# Altium integrated library Cypress PLD Delta39K.IntLib: 82 symbols (part 18 of 21)
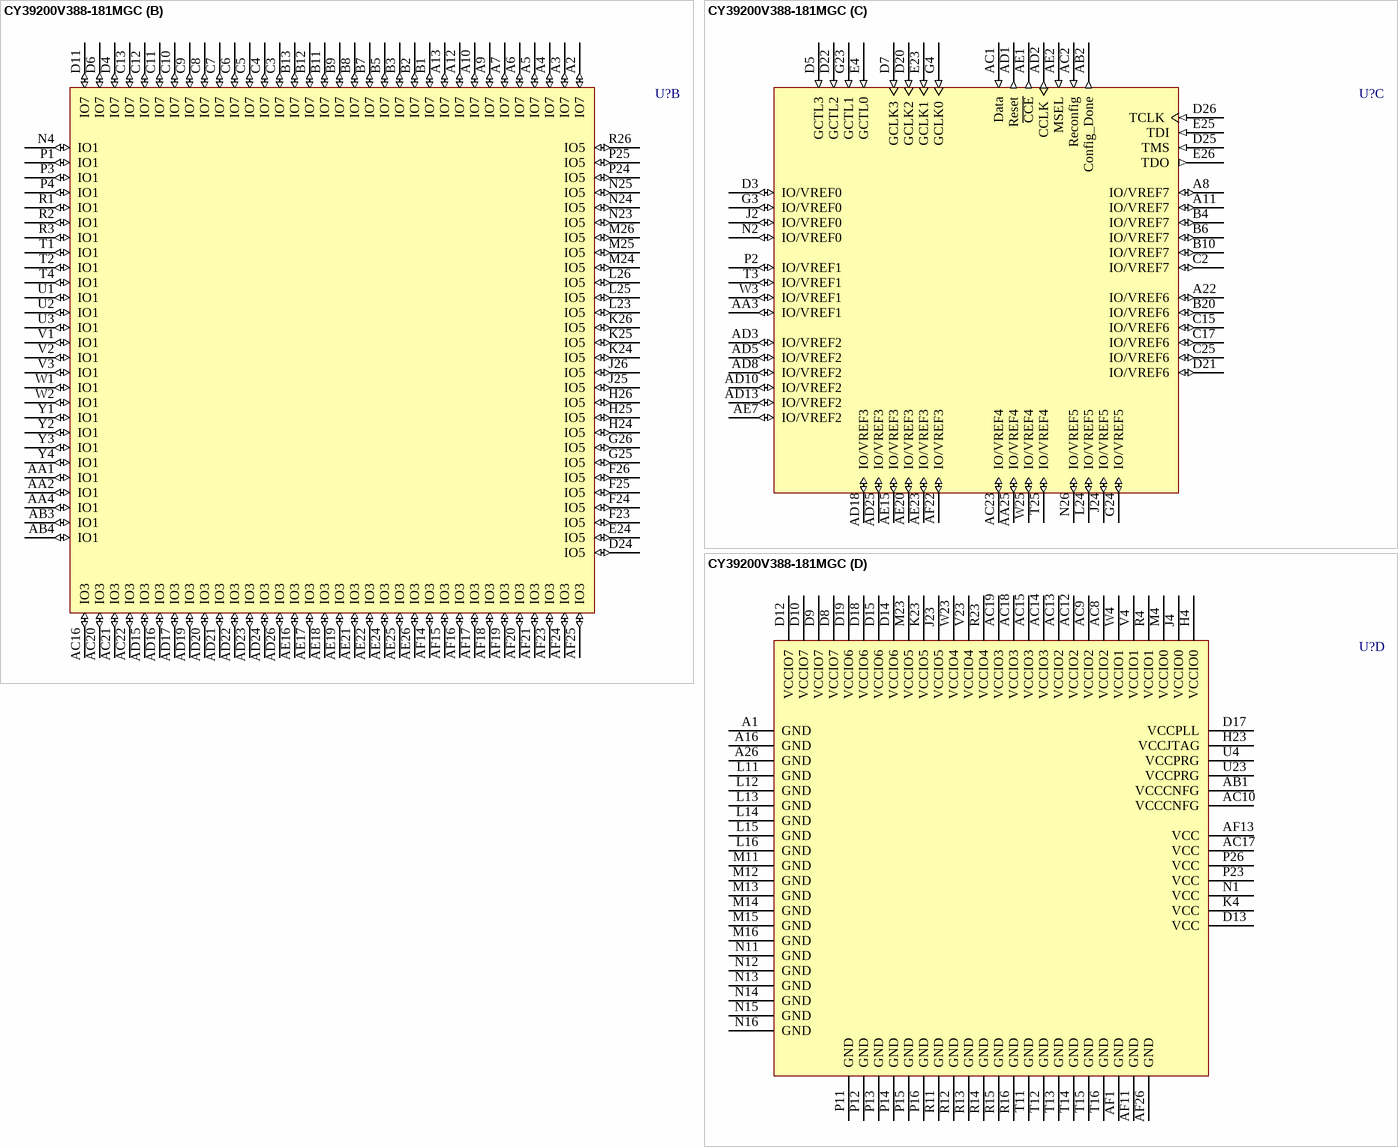
[diagram p95: symbol CY39200V388-181MGC]

## CY39200V388-181MGC
designator U?
Delta39K ISR CPLD, 3.3V/2.5V, 200K Gates, 181 MHz, 388-Ball BGA, Commercial Grade; Published: 6-Oct-2005; LatestRevisionDate: 13-Apr-2006; LatestRevisionNote: IPC-7351 Footprint Added.; DatasheetVersion: revI, Mar-2005; PackageVersion: Mar-2005; PackageReference: MG388; Publisher: Altium Limited; PackageDescription: 388-Ball Ball Grid Array 1.27 mm Pitch; ComponentLink1Description: Manufacturer Link; ComponentLink1URL: http://www.cypress.com/; ComponentLink2Description: Datasheet; ComponentLink2URL: http://www.cypress.com/portal/server.pt/gateway/PTARGS_0_601270_1522_209_0_43/http%3B/sjapp20.mis.cypress.com%3B7001/publishedcontent/publish/design_resources/datasheets/contents/cy39030v_5.pdf
footprint MG388 (BGA, 388-Leads, Body 35x35mm, Pitch 1.27mm)
3D model CY39200V388-MG388 (388-Ball Ball Grid Array 1.27 mm Pitch)
part A pins: A14 IO6 (io) "IO for Bank 6", A15 IO6 (io) "IO for Bank 6", A17 IO6 (io) "IO for Bank 6", A18 IO6 (io) "IO for Bank 6", A19 IO6 (io) "IO for Bank 6", A20 IO6 (io) "IO for Bank 6", A21 IO6 (io) "IO for Bank 6", A23 IO6 (io) "IO for Bank 6", A24 IO6 (io) "IO for Bank 6", A25 IO6 (io) "IO for Bank 6", AA23 IO4 (io) "IO for Bank 4", AA24 IO4 (io) "IO for Bank 4", AA26 IO4 (io) "IO for Bank 4", AB23 IO4 (io) "IO for Bank 4", AB24 IO4 (io) "IO for Bank 4", AB25 IO4 (io) "IO for Bank 4", AB26 IO4 (io) "IO for Bank 4", AC3 IO2 (io) "IO for Bank 2", AC4 IO2 (io) "IO for Bank 2", AC5 IO2 (io) "IO for Bank 2", AC6 IO2 (io) "IO for Bank 2", AC7 IO2 (io) "IO for Bank 2", AC11 IO2 (io) "IO for Bank 2", AC24 IO4 (io) "IO for Bank 4", AC25 IO4 (io) "IO for Bank 4", AC26 IO4 (io) "IO for Bank 4", AD4 IO2 (io) "IO for Bank 2", AD6 IO2 (io) "IO for Bank 2", AD7 IO2 (io) "IO for Bank 2", AD9 IO2 (io) "IO for Bank 2", AD11 IO2 (io) "IO for Bank 2", AD12 IO2 (io) "IO for Bank 2", AD14 IO2 (io) "IO for Bank 2", AE3 IO2 (io) "IO for Bank 2", AE4 IO2 (io) "IO for Bank 2", AE5 IO2 (io) "IO for Bank 2", AE6 IO2 (io) "IO for Bank 2", AE8 IO2 (io) "IO for Bank 2", AE9 IO2 (io) "IO for Bank 2", AE10 IO2 (io) "IO for Bank 2", AE11 IO2 (io) "IO for Bank 2", AE12 IO2 (io) "IO for Bank 2", AE13 IO2 (io) "IO for Bank 2", AE14 IO2 (io) "IO for Bank 2", AF2 IO2 (io) "IO for Bank 2", AF3 IO2 (io) "IO for Bank 2", AF4 IO2 (io) "IO for Bank 2", AF5 IO2 (io) "IO for Bank 2", AF6 IO2 (io) "IO for Bank 2", AF7 IO2 (io) "IO for Bank 2", AF8 IO2 (io) "IO for Bank 2", AF9 IO2 (io) "IO for Bank 2", AF10 IO2 (io) "IO for Bank 2", AF12 IO2 (io) "IO for Bank 2", B14 IO6 (io) "IO for Bank 6", B15 IO6 (io) "IO for Bank 6", B16 IO6 (io) "IO for Bank 6", B17 IO6/Lock (io) "IO in Bank 6 or PLL lock output signal", B18 IO6 (io) "IO for Bank 6", B19 IO6 (io) "IO for Bank 6", B21 IO6 (io) "IO for Bank 6", B22 IO6 (io) "IO for Bank 6", B23 IO6 (io) "IO for Bank 6", B24 IO6 (io) "IO for Bank 6", B25 IO6 (io) "IO for Bank 6", B26 IO6 (io) "IO for Bank 6", C1 IO0 (io) "IO for Bank 0", C14 IO6 (io) "IO for Bank 6", C16 IO6 (io) "IO for Bank 6", C18 IO6 (io) "IO for Bank 6", C19 IO6 (io) "IO for Bank 6", C20 IO6 (io) "IO for Bank 6", C21 IO6 (io) "IO for Bank 6", C22 IO6 (io) "IO for Bank 6", C23 IO6 (io) "IO for Bank 6", C24 IO6 (io) "IO for Bank 6", C26 IO6 (io) "IO for Bank 6", D1 IO0 (io) "IO for Bank 0", D2 IO0 (io) "IO for Bank 0", D16 IO6 (io) "IO for Bank 6", D23 IO6 (io) "IO for Bank 6", E1 IO0 (io) "IO for Bank 0", E2 IO0 (io) "IO for Bank 0", E3 IO0 (io) "IO for Bank 0", F1 IO0 (io) "IO for Bank 0", F2 IO0 (io) "IO for Bank 0", F3 IO0 (io) "IO for Bank 0", F4 IO0 (io) "IO for Bank 0", G1 IO0 (io) "IO for Bank 0", G2 IO0 (io) "IO for Bank 0", H1 IO0 (io) "IO for Bank 0", H2 IO0 (io) "IO for Bank 0", H3 IO0 (io) "IO for Bank 0", J1 IO0 (io) "IO for Bank 0", J3 IO0 (io) "IO for Bank 0", K1 IO0 (io) "IO for Bank 0", K2 IO0 (io) "IO for Bank 0", K3 IO0 (io) "IO for Bank 0", L1 IO0 (io) "IO for Bank 0", L2 IO0 (io) "IO for Bank 0", L3 IO0 (io) "IO for Bank 0", L4 IO0 (io) "IO for Bank 0", M1 IO0 (io) "IO for Bank 0", M2 IO0 (io) "IO for Bank 0", M3 IO0 (io) "IO for Bank 0", N3 IO0 (io) "IO for Bank 0", R24 IO4 (io) "IO for Bank 4", R25 IO4 (io) "IO for Bank 4", T23 IO4 (io) "IO for Bank 4", T24 IO4 (io) "IO for Bank 4", T26 IO4 (io) "IO for Bank 4", U24 IO4 (io) "IO for Bank 4", U25 IO4 (io) "IO for Bank 4", U26 IO4 (io) "IO for Bank 4", V24 IO4 (io) "IO for Bank 4", V25 IO4 (io) "IO for Bank 4", V26 IO4 (io) "IO for Bank 4", W24 IO4 (io) "IO for Bank 4", W26 IO4 (io) "IO for Bank 4", Y23 IO4 (io) "IO for Bank 4", Y24 IO4 (io) "IO for Bank 4", Y25 IO4 (io) "IO for Bank 4", Y26 IO4 (io) "IO for Bank 4"
part B pins: A2 IO7 (io) "IO for Bank 7", A3 IO7 (io) "IO for Bank 7", A4 IO7 (io) "IO for Bank 7", A5 IO7 (io) "IO for Bank 7", A6 IO7 (io) "IO for Bank 7", A7 IO7 (io) "IO for Bank 7", A9 IO7 (io) "IO for Bank 7", A10 IO7 (io) "IO for Bank 7", A12 IO7 (io) "IO for Bank 7", A13 IO7 (io) "IO for Bank 7", AA1 IO1 (io) "IO for Bank 1", AA2 IO1 (io) "IO for Bank 1", AA4 IO1 (io) "IO for Bank 1", AB3 IO1 (io) "IO for Bank 1", AB4 IO1 (io) "IO for Bank 1", AC16 IO3 (io) "IO for Bank 3", AC20 IO3 (io) "IO for Bank 3", AC21 IO3 (io) "IO for Bank 3", AC22 IO3 (io) "IO for Bank 3", AD15 IO3 (io) "IO for Bank 3", AD16 IO3 (io) "IO for Bank 3", AD17 IO3 (io) "IO for Bank 3", AD19 IO3 (io) "IO for Bank 3", AD20 IO3 (io) "IO for Bank 3", AD21 IO3 (io) "IO for Bank 3", AD22 IO3 (io) "IO for Bank 3", AD23 IO3 (io) "IO for Bank 3", AD24 IO3 (io) "IO for Bank 3", AD26 IO3 (io) "IO for Bank 3", AE16 IO3 (io) "IO for Bank 3", AE17 IO3 (io) "IO for Bank 3", AE18 IO3 (io) "IO for Bank 3", AE19 IO3 (io) "IO for Bank 3", AE21 IO3 (io) "IO for Bank 3", AE22 IO3 (io) "IO for Bank 3", AE24 IO3 (io) "IO for Bank 3", AE25 IO3 (io) "IO for Bank 3", AE26 IO3 (io) "IO for Bank 3", AF14 IO3 (io) "IO for Bank 3", AF15 IO3 (io) "IO for Bank 3", AF16 IO3 (io) "IO for Bank 3", AF17 IO3 (io) "IO for Bank 3", AF18 IO3 (io) "IO for Bank 3", AF19 IO3 (io) "IO for Bank 3", AF20 IO3 (io) "IO for Bank 3", AF21 IO3 (io) "IO for Bank 3", AF23 IO3 (io) "IO for Bank 3", AF24 IO3 (io) "IO for Bank 3", AF25 IO3 (io) "IO for Bank 3", B1 IO7 (io) "IO for Bank 7", B2 IO7 (io) "IO for Bank 7", B3 IO7 (io) "IO for Bank 7", B5 IO7 (io) "IO for Bank 7", B7 IO7 (io) "IO for Bank 7", B8 IO7 (io) "IO for Bank 7", B9 IO7 (io) "IO for Bank 7", B11 IO7 (io) "IO for Bank 7", B12 IO7 (io) "IO for Bank 7", B13 IO7 (io) "IO for Bank 7", C3 IO7 (io) "IO for Bank 7", C4 IO7 (io) "IO for Bank 7", C5 IO7 (io) "IO for Bank 7", C6 IO7 (io) "IO for Bank 7", C7 IO7 (io) "IO for Bank 7", C8 IO7 (io) "IO for Bank 7", C9 IO7 (io) "IO for Bank 7", C10 IO7 (io) "IO for Bank 7", C11 IO7 (io) "IO for Bank 7", C12 IO7 (io) "IO for Bank 7", C13 IO7 (io) "IO for Bank 7", D4 IO7 (io) "IO for Bank 7", D6 IO7 (io) "IO for Bank 7", D11 IO7 (io) "IO for Bank 7", D24 IO5 (io) "IO for Bank 5", E24 IO5 (io) "IO for Bank 5", F23 IO5 (io) "IO for Bank 5", F24 IO5 (io) "IO for Bank 5", F25 IO5 (io) "IO for Bank 5", F26 IO5 (io) "IO for Bank 5", G25 IO5 (io) "IO for Bank 5", G26 IO5 (io) "IO for Bank 5", H24 IO5 (io) "IO for Bank 5", H25 IO5 (io) "IO for Bank 5", H26 IO5 (io) "IO for Bank 5", J25 IO5 (io) "IO for Bank 5", J26 IO5 (io) "IO for Bank 5", K24 IO5 (io) "IO for Bank 5", K25 IO5 (io) "IO for Bank 5", K26 IO5 (io) "IO for Bank 5", L23 IO5 (io) "IO for Bank 5", L25 IO5 (io) "IO for Bank 5", L26 IO5 (io) "IO for Bank 5", M24 IO5 (io) "IO for Bank 5", M25 IO5 (io) "IO for Bank 5", M26 IO5 (io) "IO for Bank 5", N4 IO1 (io) "IO for Bank 1", N23 IO5 (io) "IO for Bank 5", N24 IO5 (io) "IO for Bank 5", N25 IO5 (io) "IO for Bank 5", P1 IO1 (io) "IO for Bank 1", P3 IO1 (io) "IO for Bank 1", P4 IO1 (io) "IO for Bank 1", P24 IO5 (io) "IO for Bank 5", P25 IO5 (io) "IO for Bank 5", R1 IO1 (io) "IO for Bank 1", R2 IO1 (io) "IO for Bank 1", R3 IO1 (io) "IO for Bank 1", R26 IO5 (io) "IO for Bank 5", T1 IO1 (io) "IO for Bank 1", T2 IO1 (io) "IO for Bank 1", T4 IO1 (io) "IO for Bank 1", U1 IO1 (io) "IO for Bank 1", U2 IO1 (io) "IO for Bank 1", U3 IO1 (io) "IO for Bank 1", V1 IO1 (io) "IO for Bank 1", V2 IO1 (io) "IO for Bank 1", V3 IO1 (io) "IO for Bank 1", W1 IO1 (io) "IO for Bank 1", W2 IO1 (io) "IO for Bank 1", Y1 IO1 (io) "IO for Bank 1", Y2 IO1 (io) "IO for Bank 1", Y3 IO1 (io) "IO for Bank 1", Y4 IO1 (io) "IO for Bank 1"
part C pins: A8 IO/VREF7 (io) "IO or Reference Voltage for Bank 7", A11 IO/VREF7 (io) "IO or Reference Voltage for Bank 7", A22 IO/VREF6 (io) "IO or Reference Voltage for Bank 6", AA3 IO/VREF1 (io) "IO or Reference Voltage for Bank 1", AA25 IO/VREF4 (io) "IO or Reference Voltage for Bank 4", AB2 Config_Done (out) "Flag indicating that configuration is complete", AC1 Data (in) "Pin to receive configuration data from the external boot PROM", AC2 Reconfig (in) "Pin to start configuration of Delta39K", AC23 IO/VREF4 (io) "IO or Reference Voltage for Bank 4", AD1 Reset (out) "Reset signal to interface with the external boot PROM", AD2 CCLK (out) "Configuration Clock for serial interface with the external boot PROM", AD3 IO/VREF2 (io) "IO or Reference Voltage for Bank 2", AD5 IO/VREF2 (io) "IO or Reference Voltage for Bank 2", AD8 IO/VREF2 (io) "IO or Reference Voltage for Bank 2", AD10 IO/VREF2 (io) "IO or Reference Voltage for Bank 2", AD13 IO/VREF2 (io) "IO or Reference Voltage for Bank 2", AD18 IO/VREF3 (io) "IO or Reference Voltage for Bank 3", AD25 IO/VREF3 (io) "IO or Reference Voltage for Bank 3", AE1 ~{CCE} (out) "Chip select for the external boot PROM (active low)", AE2 MSEL (in) "Mode Select Pin", AE7 IO/VREF2 (io) "IO or Reference Voltage for Bank 2", AE15 IO/VREF3 (io) "IO or Reference Voltage for Bank 3", AE20 IO/VREF3 (io) "IO or Reference Voltage for Bank 3", AE23 IO/VREF3 (io) "IO or Reference Voltage for Bank 3", AF22 IO/VREF3 (io) "IO or Reference Voltage for Bank 3", B4 IO/VREF7 (io) "IO or Reference Voltage for Bank 7", B6 IO/VREF7 (io) "IO or Reference Voltage for Bank 7", B10 IO/VREF7 (io) "IO or Reference Voltage for Bank 7", B20 IO/VREF6 (io) "IO or Reference Voltage for Bank 6", C2 IO/VREF7 (io) "IO or Reference Voltage for Bank 7", C15 IO/VREF6 (io) "IO or Reference Voltage for Bank 6", C17 IO/VREF6 (io) "IO or Reference Voltage for Bank 6", C25 IO/VREF6 (io) "IO or Reference Voltage for Bank 6", D3 IO/VREF0 (io) "IO or Reference Voltage for Bank 0", D5 GCTL3 (in) "Global Control signal 3", D7 GCLK3 (in) "Global Clock signal 3", D20 GCLK2 (in) "Global Clock signal 2", D21 IO/VREF6 (io) "IO or Reference Voltage for Bank 6", D22 GCTL2 (in) "Global Control signal 2", D25 TMS (in) "JTAG Test Mode Select", D26 TCLK (in) "JTAG Test Clock", E4 GCTL0 (in) "Global Control signal 0", E23 GCLK1 (in) "Global Clock signal 1", E25 TDI (in) "JTAG Test Data In", E26 TDO (out) "JTAG Test Data Out", G3 IO/VREF0 (io) "IO or Reference Voltage for Bank 0", G4 GCLK0 (in) "Global Clock signal 0", G23 GCTL1 (in) "Global Control signal 1", G24 IO/VREF5 (io) "IO or Reference Voltage for Bank 5", J2 IO/VREF0 (io) "IO or Reference Voltage for Bank 0", J24 IO/VREF5 (io) "IO or Reference Voltage for Bank 5", L24 IO/VREF5 (io) "IO or Reference Voltage for Bank 5", N2 IO/VREF0 (io) "IO or Reference Voltage for Bank 0", N26 IO/VREF5 (io) "IO or Reference Voltage for Bank 5", P2 IO/VREF1 (io) "IO or Reference Voltage for Bank 1", T3 IO/VREF1 (io) "IO or Reference Voltage for Bank 1", T25 IO/VREF4 (io) "IO or Reference Voltage for Bank 4", W3 IO/VREF1 (io) "IO or Reference Voltage for Bank 1", W25 IO/VREF4 (io) "IO or Reference Voltage for Bank 4"
part D pins: A1 GND (power) "Ground", A16 GND (power) "Ground", A26 GND (power) "Ground", AB1 VCCCNFG (power) "VCC for Configuration port", AC8 VCCIO2 (power) "VCC for I/O bank 2", AC9 VCCIO2 (power) "VCC for I/O bank 2", AC10 VCCCNFG (power) "VCC for Configuration port", AC12 VCCIO2 (power) "VCC for I/O bank 2", AC13 VCCIO2 (power) "VCC for I/O bank 2", AC14 VCCIO3 (power) "VCC for I/O bank 3", AC15 VCCIO3 (power) "VCC for I/O bank 3", AC17 VCC (power) "Operating Voltage", AC18 VCCIO3 (power) "VCC for I/O bank 3", AC19 VCCIO3 (power) "VCC for I/O bank 3", AF1 GND (power) "Ground", AF11 GND (power) "Ground", AF13 VCC (power) "Operating Voltage", AF26 GND (power) "Ground", D8 VCCIO7 (power) "VCC for I/O bank 7", D9 VCCIO7 (power) "VCC for I/O bank 7", D10 VCCIO7 (power) "VCC for I/O bank 7", D12 VCCIO7 (power) "VCC for I/O bank 7", D13 VCC (power) "Operating Voltage", D14 VCCIO6 (power) "VCC for I/O bank 6", D15 VCCIO6 (power) "VCC for I/O bank 6", D17 VCCPLL (power) "VCC for PLL", D18 VCCIO6 (power) "VCC for I/O bank 6", D19 VCCIO6 (power) "VCC for I/O bank 6", H4 VCCIO0 (power) "VCC for I/O bank 0", H23 VCCJTAG (power) "VCC for JTAG pins", J4 VCCIO0 (power) "VCC for I/O bank 0", J23 VCCIO5 (power) "VCC for I/O bank 5", K4 VCC (power) "Operating Voltage", K23 VCCIO5 (power) "VCC for I/O bank 5", L11 GND (power) "Ground", L12 GND (power) "Ground", L13 GND (power) "Ground", L14 GND (power) "Ground", L15 GND (power) "Ground", L16 GND (power) "Ground", M4 VCCIO0 (power) "VCC for I/O bank 0", M11 GND (power) "Ground", M12 GND (power) "Ground", M13 GND (power) "Ground", M14 GND (power) "Ground", M15 GND (power) "Ground", M16 GND (power) "Ground", M23 VCCIO5 (power) "VCC for I/O bank 5", N1 VCC (power) "Operating Voltage", N11 GND (power) "Ground", N12 GND (power) "Ground", N13 GND (power) "Ground", N14 GND (power) "Ground", N15 GND (power) "Ground", N16 GND (power) "Ground", P11 GND (power) "Ground", P12 GND (power) "Ground", P13 GND (power) "Ground", P14 GND (power) "Ground", P15 GND (power) "Ground", P16 GND (power) "Ground", P23 VCC (power) "Operating Voltage", P26 VCC (power) "Operating Voltage", R4 VCCIO1 (power) "VCC for I/O bank 1", R11 GND (power) "Ground", R12 GND (power) "Ground", R13 GND (power) "Ground", R14 GND (power) "Ground", R15 GND (power) "Ground", R16 GND (power) "Ground", R23 VCCIO4 (power) "VCC for I/O bank 4", T11 GND (power) "Ground", T12 GND (power) "Ground", T13 GND (power) "Ground", T14 GND (power) "Ground", T15 GND (power) "Ground", T16 GND (power) "Ground", U4 VCCPRG (power) "VCC for programming Self-Boot solution embedded boot PROM", U23 VCCPRG (power) "VCC for programming Self-Boot solution embedded boot PROM", V4 VCCIO1 (power) "VCC for I/O bank 1", V23 VCCIO4 (power) "VCC for I/O bank 4", W4 VCCIO1 (power) "VCC for I/O bank 1", W23 VCCIO4 (power) "VCC for I/O bank 4"

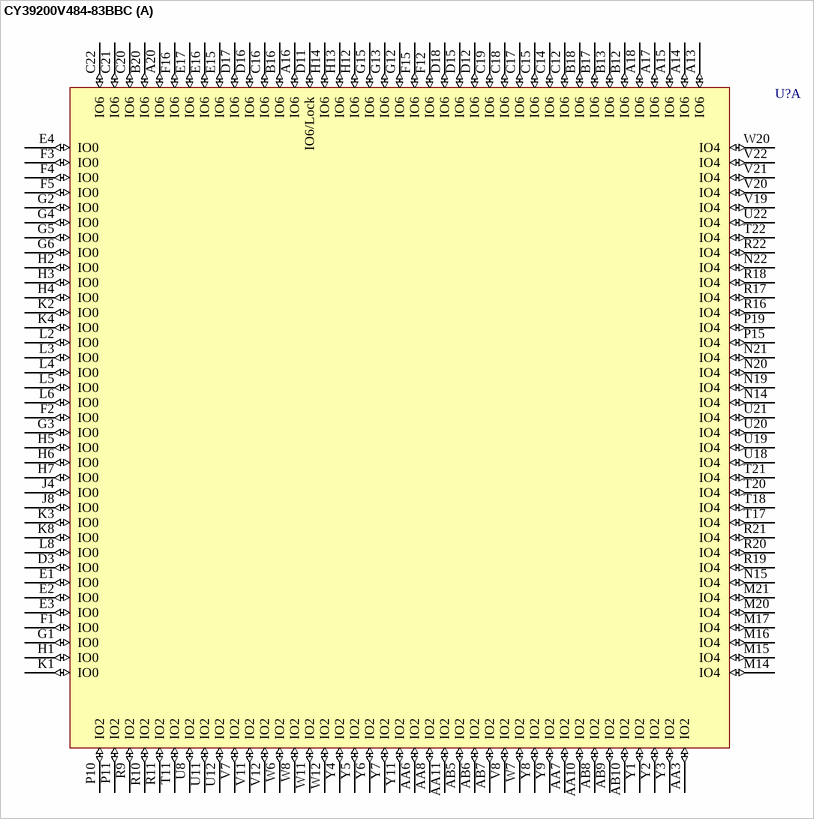
[diagram p60: symbol CY39200V484-83BBC]

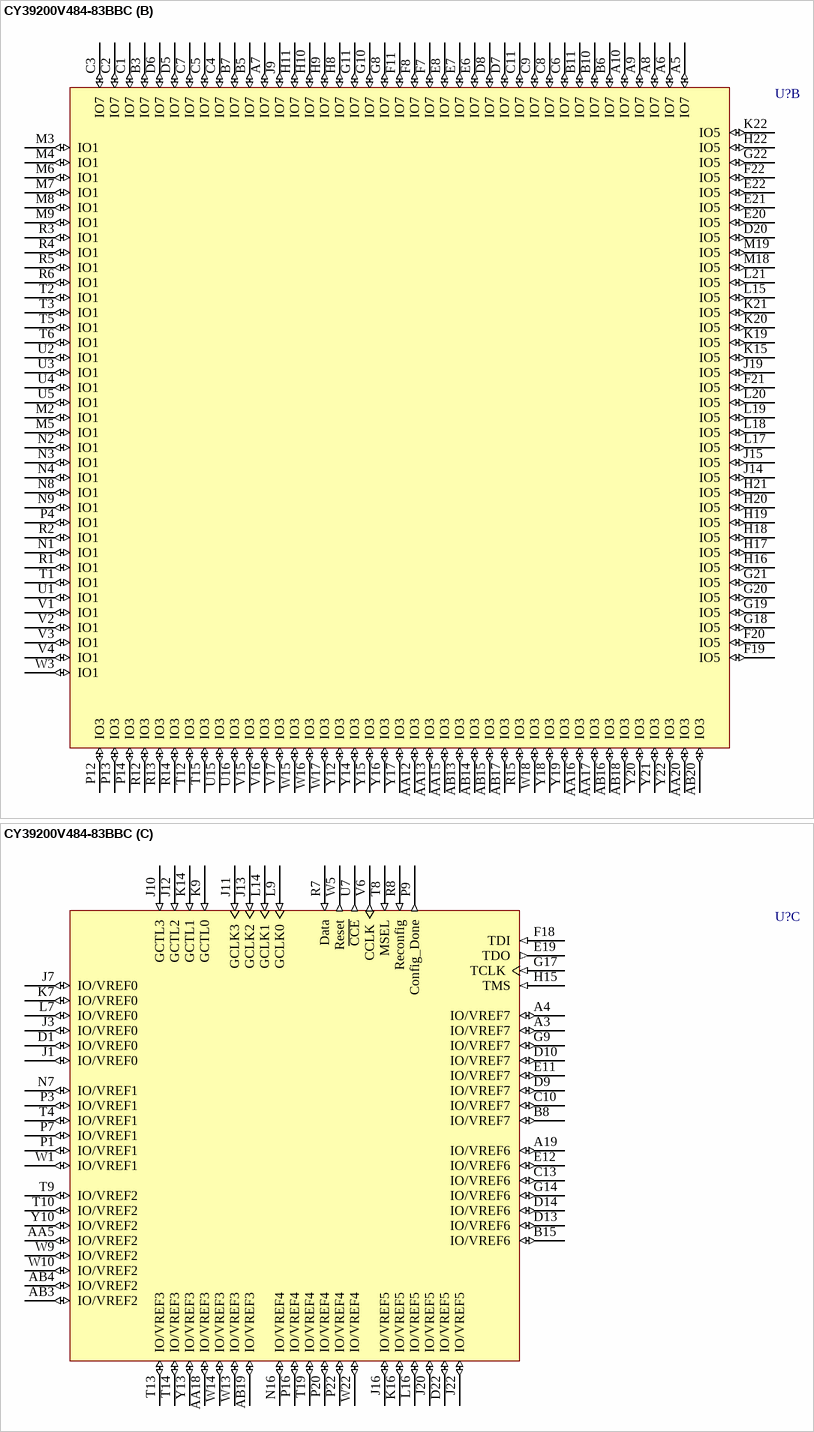
[diagram p61: symbol CY39200V484-83BBC]

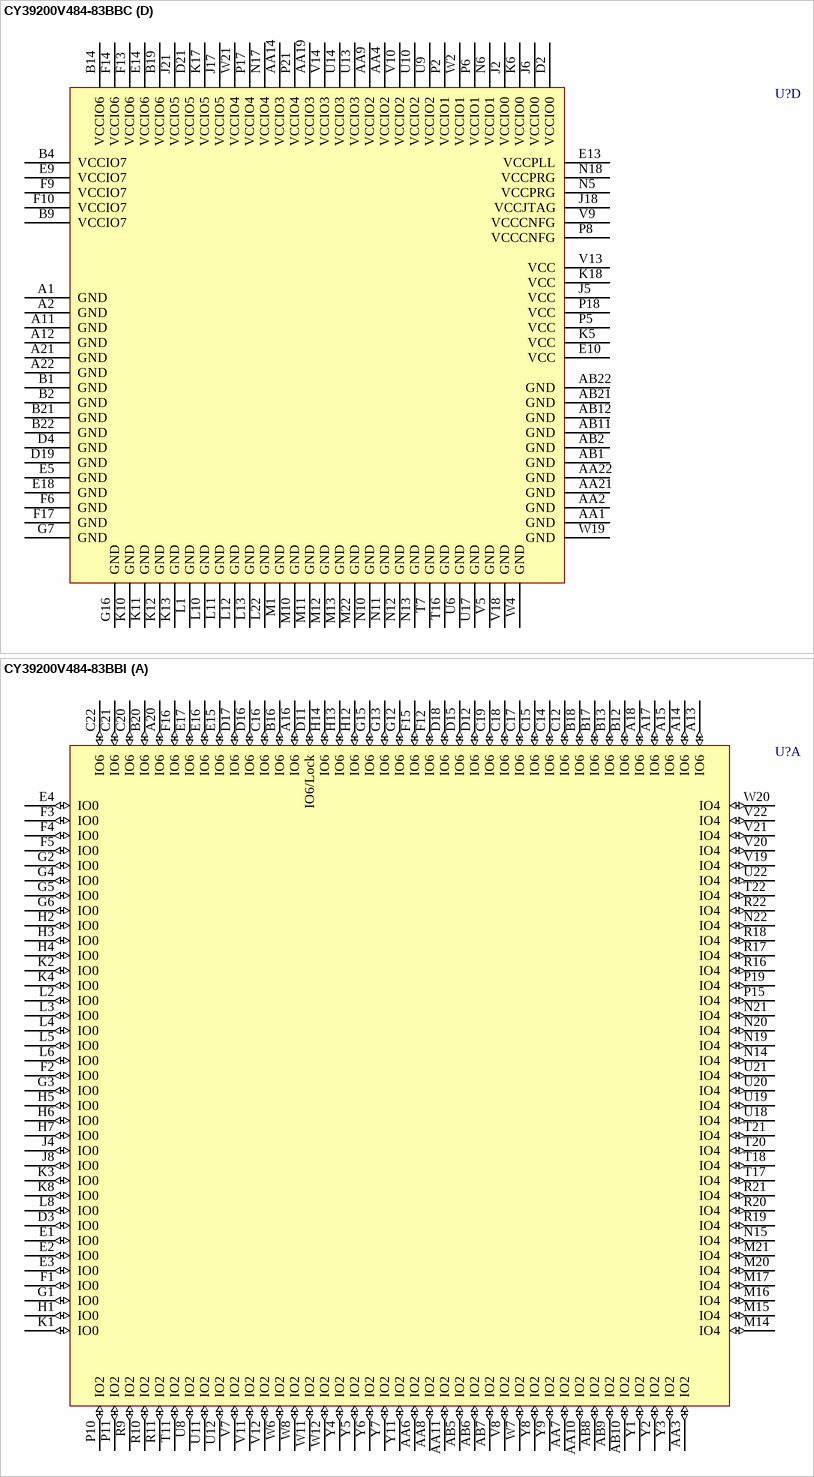
[diagram p62: symbols CY39200V484-83BBC to CY39200V484-83BBI]

## CY39200V484-83BBC
designator U?
Delta39K ISR CPLD, 3.3V/2.5V, 200K Gates, 83 MHz, 484-Ball FBGA, Commercial Grade; ComponentAvailability: Obsolete; Published: 11-Dec-2002; LatestRevisionDate: 13-Apr-2006; LatestRevisionNote: IPC-7351 Footprint Added.; DatasheetVersion: revI, Mar-2005; PackageVersion: Mar-2005; PackageReference: BB484; Publisher: Altium Limited; PackageDescription: 484-Ball Fine Pitch Ball Grid Array 1 mm Pitch; Code_IPC: BGA100P22X22-484; ComponentLink1Description: Manufacturer Link; ComponentLink1URL: http://www.cypress.com/; ComponentLink2Description: Datasheet; ComponentLink2URL: http://www.cypress.com/portal/server.pt/gateway/PTARGS_0_601270_1522_209_0_43/http%3B/sjapp20.mis.cypress.com%3B7001/publishedcontent/publish/design_resources/datasheets/contents/cy39030v_5.pdf
footprint BB484 (BGA, 484-Leads, Body 23x23mm, Pitch 1mm)
3D model CY39200V484-BB484 (484-Ball Fine Pitch Ball Grid Array 1 mm Pitch)
part A pins: A13 IO6 (io) "IO for Bank 6", A14 IO6 (io) "IO for Bank 6", A15 IO6 (io) "IO for Bank 6", A16 IO6 (io) "IO for Bank 6", A17 IO6 (io) "IO for Bank 6", A18 IO6 (io) "IO for Bank 6", A20 IO6 (io) "IO for Bank 6", AA3 IO2 (io) "IO for Bank 2", AA6 IO2 (io) "IO for Bank 2", AA7 IO2 (io) "IO for Bank 2", AA8 IO2 (io) "IO for Bank 2", AA10 IO2 (io) "IO for Bank 2", AA11 IO2 (io) "IO for Bank 2", AB5 IO2 (io) "IO for Bank 2", AB6 IO2 (io) "IO for Bank 2", AB7 IO2 (io) "IO for Bank 2", AB8 IO2 (io) "IO for Bank 2", AB9 IO2 (io) "IO for Bank 2", AB10 IO2 (io) "IO for Bank 2", B12 IO6 (io) "IO for Bank 6", B13 IO6 (io) "IO for Bank 6", B16 IO6 (io) "IO for Bank 6", B17 IO6 (io) "IO for Bank 6", B18 IO6 (io) "IO for Bank 6", B20 IO6 (io) "IO for Bank 6", C12 IO6 (io) "IO for Bank 6", C14 IO6 (io) "IO for Bank 6", C15 IO6 (io) "IO for Bank 6", C16 IO6 (io) "IO for Bank 6", C17 IO6 (io) "IO for Bank 6", C18 IO6 (io) "IO for Bank 6", C19 IO6 (io) "IO for Bank 6", C20 IO6 (io) "IO for Bank 6", C21 IO6 (io) "IO for Bank 6", C22 IO6 (io) "IO for Bank 6", D3 IO0 (io) "IO for Bank 0", D11 IO6/Lock (io) "IO in Bank 6 or PLL lock output signal", D12 IO6 (io) "IO for Bank 6", D15 IO6 (io) "IO for Bank 6", D16 IO6 (io) "IO for Bank 6", D17 IO6 (io) "IO for Bank 6", D18 IO6 (io) "IO for Bank 6", E1 IO0 (io) "IO for Bank 0", E2 IO0 (io) "IO for Bank 0", E3 IO0 (io) "IO for Bank 0", E4 IO0 (io) "IO for Bank 0", E15 IO6 (io) "IO for Bank 6", E16 IO6 (io) "IO for Bank 6", E17 IO6 (io) "IO for Bank 6", F1 IO0 (io) "IO for Bank 0", F2 IO0 (io) "IO for Bank 0", F3 IO0 (io) "IO for Bank 0", F4 IO0 (io) "IO for Bank 0", F5 IO0 (io) "IO for Bank 0", F12 IO6 (io) "IO for Bank 6", F15 IO6 (io) "IO for Bank 6", F16 IO6 (io) "IO for Bank 6", G1 IO0 (io) "IO for Bank 0", G2 IO0 (io) "IO for Bank 0", G3 IO0 (io) "IO for Bank 0", G4 IO0 (io) "IO for Bank 0", G5 IO0 (io) "IO for Bank 0", G6 IO0 (io) "IO for Bank 0", G12 IO6 (io) "IO for Bank 6", G13 IO6 (io) "IO for Bank 6", G15 IO6 (io) "IO for Bank 6", H1 IO0 (io) "IO for Bank 0", H2 IO0 (io) "IO for Bank 0", H3 IO0 (io) "IO for Bank 0", H4 IO0 (io) "IO for Bank 0", H5 IO0 (io) "IO for Bank 0", H6 IO0 (io) "IO for Bank 0", H7 IO0 (io) "IO for Bank 0", H12 IO6 (io) "IO for Bank 6", H13 IO6 (io) "IO for Bank 6", H14 IO6 (io) "IO for Bank 6", J4 IO0 (io) "IO for Bank 0", J8 IO0 (io) "IO for Bank 0", K1 IO0 (io) "IO for Bank 0", K2 IO0 (io) "IO for Bank 0", K3 IO0 (io) "IO for Bank 0", K4 IO0 (io) "IO for Bank 0", K8 IO0 (io) "IO for Bank 0", L2 IO0 (io) "IO for Bank 0", L3 IO0 (io) "IO for Bank 0", L4 IO0 (io) "IO for Bank 0", L5 IO0 (io) "IO for Bank 0", L6 IO0 (io) "IO for Bank 0", L8 IO0 (io) "IO for Bank 0", M14 IO4 (io) "IO for Bank 4", M15 IO4 (io) "IO for Bank 4", M16 IO4 (io) "IO for Bank 4", M17 IO4 (io) "IO for Bank 4", M20 IO4 (io) "IO for Bank 4", M21 IO4 (io) "IO for Bank 4", N14 IO4 (io) "IO for Bank 4", N15 IO4 (io) "IO for Bank 4", N19 IO4 (io) "IO for Bank 4", N20 IO4 (io) "IO for Bank 4", N21 IO4 (io) "IO for Bank 4", N22 IO4 (io) "IO for Bank 4", P10 IO2 (io) "IO for Bank 2", P11 IO2 (io) "IO for Bank 2", P15 IO4 (io) "IO for Bank 4", P19 IO4 (io) "IO for Bank 4", R9 IO2 (io) "IO for Bank 2", R10 IO2 (io) "IO for Bank 2", R11 IO2 (io) "IO for Bank 2", R16 IO4 (io) "IO for Bank 4", R17 IO4 (io) "IO for Bank 4", R18 IO4 (io) "IO for Bank 4", R19 IO4 (io) "IO for Bank 4", R20 IO4 (io) "IO for Bank 4", R21 IO4 (io) "IO for Bank 4", R22 IO4 (io) "IO for Bank 4", T11 IO2 (io) "IO for Bank 2", T17 IO4 (io) "IO for Bank 4", T18 IO4 (io) "IO for Bank 4", T20 IO4 (io) "IO for Bank 4", T21 IO4 (io) "IO for Bank 4", T22 IO4 (io) "IO for Bank 4", U8 IO2 (io) "IO for Bank 2", U11 IO2 (io) "IO for Bank 2", U12 IO2 (io) "IO for Bank 2", U18 IO4 (io) "IO for Bank 4", U19 IO4 (io) "IO for Bank 4", U20 IO4 (io) "IO for Bank 4", U21 IO4 (io) "IO for Bank 4", U22 IO4 (io) "IO for Bank 4", V7 IO2 (io) "IO for Bank 2", V8 IO2 (io) "IO for Bank 2", V11 IO2 (io) "IO for Bank 2", V12 IO2 (io) "IO for Bank 2", V19 IO4 (io) "IO for Bank 4", V20 IO4 (io) "IO for Bank 4", V21 IO4 (io) "IO for Bank 4", V22 IO4 (io) "IO for Bank 4", W6 IO2 (io) "IO for Bank 2", W7 IO2 (io) "IO for Bank 2", W8 IO2 (io) "IO for Bank 2", W11 IO2 (io) "IO for Bank 2", W12 IO2 (io) "IO for Bank 2", W20 IO4 (io) "IO for Bank 4", Y1 IO2 (io) "IO for Bank 2", Y2 IO2 (io) "IO for Bank 2", Y3 IO2 (io) "IO for Bank 2", Y4 IO2 (io) "IO for Bank 2", Y5 IO2 (io) "IO for Bank 2", Y6 IO2 (io) "IO for Bank 2", Y7 IO2 (io) "IO for Bank 2", Y8 IO2 (io) "IO for Bank 2", Y9 IO2 (io) "IO for Bank 2", Y11 IO2 (io) "IO for Bank 2"
part B pins: A5 IO7 (io) "IO for Bank 7", A6 IO7 (io) "IO for Bank 7", A7 IO7 (io) "IO for Bank 7", A8 IO7 (io) "IO for Bank 7", A9 IO7 (io) "IO for Bank 7", A10 IO7 (io) "IO for Bank 7", AA12 IO3 (io) "IO for Bank 3", AA13 IO3 (io) "IO for Bank 3", AA15 IO3 (io) "IO for Bank 3", AA16 IO3 (io) "IO for Bank 3", AA17 IO3 (io) "IO for Bank 3", AA20 IO3 (io) "IO for Bank 3", AB13 IO3 (io) "IO for Bank 3", AB14 IO3 (io) "IO for Bank 3", AB15 IO3 (io) "IO for Bank 3", AB16 IO3 (io) "IO for Bank 3", AB17 IO3 (io) "IO for Bank 3", AB18 IO3 (io) "IO for Bank 3", AB20 IO3 (io) "IO for Bank 3", B3 IO7 (io) "IO for Bank 7", B5 IO7 (io) "IO for Bank 7", B6 IO7 (io) "IO for Bank 7", B7 IO7 (io) "IO for Bank 7", B10 IO7 (io) "IO for Bank 7", B11 IO7 (io) "IO for Bank 7", C1 IO7 (io) "IO for Bank 7", C2 IO7 (io) "IO for Bank 7", C3 IO7 (io) "IO for Bank 7", C4 IO7 (io) "IO for Bank 7", C5 IO7 (io) "IO for Bank 7", C6 IO7 (io) "IO for Bank 7", C7 IO7 (io) "IO for Bank 7", C8 IO7 (io) "IO for Bank 7", C9 IO7 (io) "IO for Bank 7", C11 IO7 (io) "IO for Bank 7", D5 IO7 (io) "IO for Bank 7", D6 IO7 (io) "IO for Bank 7", D7 IO7 (io) "IO for Bank 7", D8 IO7 (io) "IO for Bank 7", D20 IO5 (io) "IO for Bank 5", E6 IO7 (io) "IO for Bank 7", E7 IO7 (io) "IO for Bank 7", E8 IO7 (io) "IO for Bank 7", E20 IO5 (io) "IO for Bank 5", E21 IO5 (io) "IO for Bank 5", E22 IO5 (io) "IO for Bank 5", F7 IO7 (io) "IO for Bank 7", F8 IO7 (io) "IO for Bank 7", F11 IO7 (io) "IO for Bank 7", F19 IO5 (io) "IO for Bank 5", F20 IO5 (io) "IO for Bank 5", F21 IO5 (io) "IO for Bank 5", F22 IO5 (io) "IO for Bank 5", G8 IO7 (io) "IO for Bank 7", G10 IO7 (io) "IO for Bank 7", G11 IO7 (io) "IO for Bank 7", G18 IO5 (io) "IO for Bank 5", G19 IO5 (io) "IO for Bank 5", G20 IO5 (io) "IO for Bank 5", G21 IO5 (io) "IO for Bank 5", G22 IO5 (io) "IO for Bank 5", H8 IO7 (io) "IO for Bank 7", H9 IO7 (io) "IO for Bank 7", H10 IO7 (io) "IO for Bank 7", H11 IO7 (io) "IO for Bank 7", H16 IO5 (io) "IO for Bank 5", H17 IO5 (io) "IO for Bank 5", H18 IO5 (io) "IO for Bank 5", H19 IO5 (io) "IO for Bank 5", H20 IO5 (io) "IO for Bank 5", H21 IO5 (io) "IO for Bank 5", H22 IO5 (io) "IO for Bank 5", J9 IO7 (io) "IO for Bank 7", J14 IO5 (io) "IO for Bank 5", J15 IO5 (io) "IO for Bank 5", J19 IO5 (io) "IO for Bank 5", K15 IO5 (io) "IO for Bank 5", K19 IO5 (io) "IO for Bank 5", K20 IO5 (io) "IO for Bank 5", K21 IO5 (io) "IO for Bank 5", K22 IO5 (io) "IO for Bank 5", L15 IO5 (io) "IO for Bank 5", L17 IO5 (io) "IO for Bank 5", L18 IO5 (io) "IO for Bank 5", L19 IO5 (io) "IO for Bank 5", L20 IO5 (io) "IO for Bank 5", L21 IO5 (io) "IO for Bank 5", M2 IO1 (io) "IO for Bank 1", M3 IO1 (io) "IO for Bank 1", M4 IO1 (io) "IO for Bank 1", M5 IO1 (io) "IO for Bank 1", M6 IO1 (io) "IO for Bank 1", M7 IO1 (io) "IO for Bank 1", M8 IO1 (io) "IO for Bank 1", M9 IO1 (io) "IO for Bank 1", M18 IO5 (io) "IO for Bank 5", M19 IO5 (io) "IO for Bank 5", N1 IO1 (io) "IO for Bank 1", N2 IO1 (io) "IO for Bank 1", N3 IO1 (io) "IO for Bank 1", N4 IO1 (io) "IO for Bank 1", N8 IO1 (io) "IO for Bank 1", N9 IO1 (io) "IO for Bank 1", P4 IO1 (io) "IO for Bank 1", P12 IO3 (io) "IO for Bank 3", P13 IO3 (io) "IO for Bank 3", P14 IO3 (io) "IO for Bank 3", R1 IO1 (io) "IO for Bank 1", R2 IO1 (io) "IO for Bank 1", R3 IO1 (io) "IO for Bank 1", R4 IO1 (io) "IO for Bank 1", R5 IO1 (io) "IO for Bank 1", R6 IO1 (io) "IO for Bank 1", R12 IO3 (io) "IO for Bank 3", R13 IO3 (io) "IO for Bank 3", R14 IO3 (io) "IO for Bank 3", R15 IO3 (io) "IO for Bank 3", T1 IO1 (io) "IO for Bank 1", T2 IO1 (io) "IO for Bank 1", T3 IO1 (io) "IO for Bank 1", T5 IO1 (io) "IO for Bank 1", T6 IO1 (io) "IO for Bank 1", T12 IO3 (io) "IO for Bank 3", T15 IO3 (io) "IO for Bank 3", U1 IO1 (io) "IO for Bank 1", U2 IO1 (io) "IO for Bank 1", U3 IO1 (io) "IO for Bank 1", U4 IO1 (io) "IO for Bank 1", U5 IO1 (io) "IO for Bank 1", U15 IO3 (io) "IO for Bank 3", U16 IO3 (io) "IO for Bank 3", V1 IO1 (io) "IO for Bank 1", V2 IO1 (io) "IO for Bank 1", V3 IO1 (io) "IO for Bank 1", V4 IO1 (io) "IO for Bank 1", V15 IO3 (io) "IO for Bank 3", V16 IO3 (io) "IO for Bank 3", V17 IO3 (io) "IO for Bank 3", W3 IO1 (io) "IO for Bank 1", W15 IO3 (io) "IO for Bank 3", W16 IO3 (io) "IO for Bank 3", W17 IO3 (io) "IO for Bank 3", W18 IO3 (io) "IO for Bank 3", Y12 IO3 (io) "IO for Bank 3", Y14 IO3 (io) "IO for Bank 3", Y15 IO3 (io) "IO for Bank 3", Y16 IO3 (io) "IO for Bank 3", Y17 IO3 (io) "IO for Bank 3", Y18 IO3 (io) "IO for Bank 3", Y19 IO3 (io) "IO for Bank 3", Y20 IO3 (io) "IO for Bank 3", Y21 IO3 (io) "IO for Bank 3", Y22 IO3 (io) "IO for Bank 3"
part C pins: A3 IO/VREF7 (io) "IO or Reference Voltage for Bank 7", A4 IO/VREF7 (io) "IO or Reference Voltage for Bank 7", A19 IO/VREF6 (io) "IO or Reference Voltage for Bank 6", AA5 IO/VREF2 (io) "IO or Reference Voltage for Bank 2", AA18 IO/VREF3 (io) "IO or Reference Voltage for Bank 3", AB3 IO/VREF2 (io) "IO or Reference Voltage for Bank 2", AB4 IO/VREF2 (io) "IO or Reference Voltage for Bank 2", AB19 IO/VREF3 (io) "IO or Reference Voltage for Bank 3", B8 IO/VREF7 (io) "IO or Reference Voltage for Bank 7", B15 IO/VREF6 (io) "IO or Reference Voltage for Bank 6", C10 IO/VREF7 (io) "IO or Reference Voltage for Bank 7", C13 IO/VREF6 (io) "IO or Reference Voltage for Bank 6", D1 IO/VREF0 (io) "IO or Reference Voltage for Bank 0", D9 IO/VREF7 (io) "IO or Reference Voltage for Bank 7", D10 IO/VREF7 (io) "IO or Reference Voltage for Bank 7", D13 IO/VREF6 (io) "IO or Reference Voltage for Bank 6", D14 IO/VREF6 (io) "IO or Reference Voltage for Bank 6", D22 IO/VREF5 (io) "IO or Reference Voltage for Bank 5", E11 IO/VREF7 (io) "IO or Reference Voltage for Bank 7", E12 IO/VREF6 (io) "IO or Reference Voltage for Bank 6", E19 TDO (out) "JTAG Test Data Out", F18 TDI (in) "JTAG Test Data In", G9 IO/VREF7 (io) "IO or Reference Voltage for Bank 7", G14 IO/VREF6 (io) "IO or Reference Voltage for Bank 6", G17 TCLK (in) "JTAG Test Clock", H15 TMS (in) "JTAG Test Mode Select", J1 IO/VREF0 (io) "IO or Reference Voltage for Bank 0", J3 IO/VREF0 (io) "IO or Reference Voltage for Bank 0", J7 IO/VREF0 (io) "IO or Reference Voltage for Bank 0", J10 GCTL3 (in) "Global Control signal 3", J11 GCLK3 (in) "Global Clock signal 3", J12 GCTL2 (in) "Global Control signal 2", J13 GCLK2 (in) "Global Clock signal 2", J16 IO/VREF5 (io) "IO or Reference Voltage for Bank 5", J20 IO/VREF5 (io) "IO or Reference Voltage for Bank 5", J22 IO/VREF5 (io) "IO or Reference Voltage for Bank 5", K7 IO/VREF0 (io) "IO or Reference Voltage for Bank 0", K9 GCTL0 (in) "Global Control signal 0", K14 GCTL1 (in) "Global Control signal 1", K16 IO/VREF5 (io) "IO or Reference Voltage for Bank 5", L7 IO/VREF0 (io) "IO or Reference Voltage for Bank 0", L9 GCLK0 (in) "Global Clock signal 0", L14 GCLK1 (in) "Global Clock signal 1", L16 IO/VREF5 (io) "IO or Reference Voltage for Bank 5", N7 IO/VREF1 (io) "IO or Reference Voltage for Bank 1", N16 IO/VREF4 (io) "IO or Reference Voltage for Bank 4", P1 IO/VREF1 (io) "IO or Reference Voltage for Bank 1", P3 IO/VREF1 (io) "IO or Reference Voltage for Bank 1", P7 IO/VREF1 (io) "IO or Reference Voltage for Bank 1", P9 Config_Done (out) "Flag indicating that configuration is complete", P16 IO/VREF4 (io) "IO or Reference Voltage for Bank 4", P20 IO/VREF4 (io) "IO or Reference Voltage for Bank 4", P22 IO/VREF4 (io) "IO or Reference Voltage for Bank 4", R7 Data (in) "Pin to receive configuration data from the external boot PROM", R8 Reconfig (in) "Pin to start configuration of Delta39K", T4 IO/VREF1 (io) "IO or Reference Voltage for Bank 1", T8 MSEL (in) "Mode Select Pin", T9 IO/VREF2 (io) "IO or Reference Voltage for Bank 2", T10 IO/VREF2 (io) "IO or Reference Voltage for Bank 2", T13 IO/VREF3 (io) "IO or Reference Voltage for Bank 3", T14 IO/VREF3 (io) "IO or Reference Voltage for Bank 3", T19 IO/VREF4 (io) "IO or Reference Voltage for Bank 4", U7 ~{CCE} (out) "Chip select for the external boot PROM (active low)", V6 CCLK (out) "Configuration Clock for serial interface with the external boot PROM", W1 IO/VREF1 (io) "IO or Reference Voltage for Bank 1", W5 Reset (out) "Reset signal to interface with the external boot PROM", W9 IO/VREF2 (io) "IO or Reference Voltage for Bank 2", W10 IO/VREF2 (io) "IO or Reference Voltage for Bank 2", W13 IO/VREF3 (io) "IO or Reference Voltage for Bank 3", W14 IO/VREF3 (io) "IO or Reference Voltage for Bank 3", W22 IO/VREF4 (io) "IO or Reference Voltage for Bank 4", Y10 IO/VREF2 (io) "IO or Reference Voltage for Bank 2", Y13 IO/VREF3 (io) "IO or Reference Voltage for Bank 3"
part D pins: A1 GND (power) "Ground", A2 GND (power) "Ground", A11 GND (power) "Ground", A12 GND (power) "Ground", A21 GND (power) "Ground", A22 GND (power) "Ground", AA1 GND (power) "Ground", AA2 GND (power) "Ground", AA4 VCCIO2 (power) "VCC for I/O bank 2", AA9 VCCIO2 (power) "VCC for I/O bank 2", AA14 VCCIO3 (power) "VCC for I/O bank 3", AA19 VCCIO3 (power) "VCC for I/O bank 3", AA21 GND (power) "Ground", AA22 GND (power) "Ground", AB1 GND (power) "Ground", AB2 GND (power) "Ground", AB11 GND (power) "Ground", AB12 GND (power) "Ground", AB21 GND (power) "Ground", AB22 GND (power) "Ground", B1 GND (power) "Ground", B2 GND (power) "Ground", B4 VCCIO7 (power) "VCC for I/O bank 7", B9 VCCIO7 (power) "VCC for I/O bank 7", B14 VCCIO6 (power) "VCC for I/O bank 6", B19 VCCIO6 (power) "VCC for I/O bank 6", B21 GND (power) "Ground", B22 GND (power) "Ground", D2 VCCIO0 (power) "VCC for I/O bank 0", D4 GND (power) "Ground", D19 GND (power) "Ground", D21 VCCIO5 (power) "VCC for I/O bank 5", E5 GND (power) "Ground", E9 VCCIO7 (power) "VCC for I/O bank 7", E10 VCC (power) "Operating Voltage", E13 VCCPLL (power) "VCC for PLL", E14 VCCIO6 (power) "VCC for I/O bank 6", E18 GND (power) "Ground", F6 GND (power) "Ground", F9 VCCIO7 (power) "VCC for I/O bank 7", F10 VCCIO7 (power) "VCC for I/O bank 7", F13 VCCIO6 (power) "VCC for I/O bank 6", F14 VCCIO6 (power) "VCC for I/O bank 6", F17 GND (power) "Ground", G7 GND (power) "Ground", G16 GND (power) "Ground", J2 VCCIO0 (power) "VCC for I/O bank 0", J5 VCC (power) "Operating Voltage", J6 VCCIO0 (power) "VCC for I/O bank 0", J17 VCCIO5 (power) "VCC for I/O bank 5", J18 VCCJTAG (power) "VCC for JTAG pins", J21 VCCIO5 (power) "VCC for I/O bank 5", K5 VCC (power) "Operating Voltage", K6 VCCIO0 (power) "VCC for I/O bank 0", K10 GND (power) "Ground", K11 GND (power) "Ground", K12 GND (power) "Ground", K13 GND (power) "Ground", K17 VCCIO5 (power) "VCC for I/O bank 5", K18 VCC (power) "Operating Voltage", L1 GND (power) "Ground", L10 GND (power) "Ground", L11 GND (power) "Ground", L12 GND (power) "Ground", L13 GND (power) "Ground", L22 GND (power) "Ground", M1 GND (power) "Ground", M10 GND (power) "Ground", M11 GND (power) "Ground", M12 GND (power) "Ground", M13 GND (power) "Ground", M22 GND (power) "Ground", N5 VCCPRG (power) "VCC for programming Self-Boot solution embedded boot PROM", N6 VCCIO1 (power) "VCC for I/O bank 1", N10 GND (power) "Ground", N11 GND (power) "Ground", N12 GND (power) "Ground", N13 GND (power) "Ground", N17 VCCIO4 (power) "VCC for I/O bank 4", N18 VCCPRG (power) "VCC for programming Self-Boot solution embedded boot PROM", P2 VCCIO1 (power) "VCC for I/O bank 1", P5 VCC (power) "Operating Voltage", P6 VCCIO1 (power) "VCC for I/O bank 1", P8 VCCCNFG (power) "VCC for Configuration port", P17 VCCIO4 (power) "VCC for I/O bank 4", P18 VCC (power) "Operating Voltage", P21 VCCIO4 (power) "VCC for I/O bank 4", T7 GND (power) "Ground", T16 GND (power) "Ground", U6 GND (power) "Ground", U9 VCCIO2 (power) "VCC for I/O bank 2", U10 VCCIO2 (power) "VCC for I/O bank 2", U13 VCCIO3 (power) "VCC for I/O bank 3", U14 VCCIO3 (power) "VCC for I/O bank 3", U17 GND (power) "Ground", V5 GND (power) "Ground", V9 VCCCNFG (power) "VCC for Configuration port", V10 VCCIO2 (power) "VCC for I/O bank 2", V13 VCC (power) "Operating Voltage", V14 VCCIO3 (power) "VCC for I/O bank 3", V18 GND (power) "Ground", W2 VCCIO1 (power) "VCC for I/O bank 1", W4 GND (power) "Ground", W19 GND (power) "Ground", W21 VCCIO4 (power) "VCC for I/O bank 4"

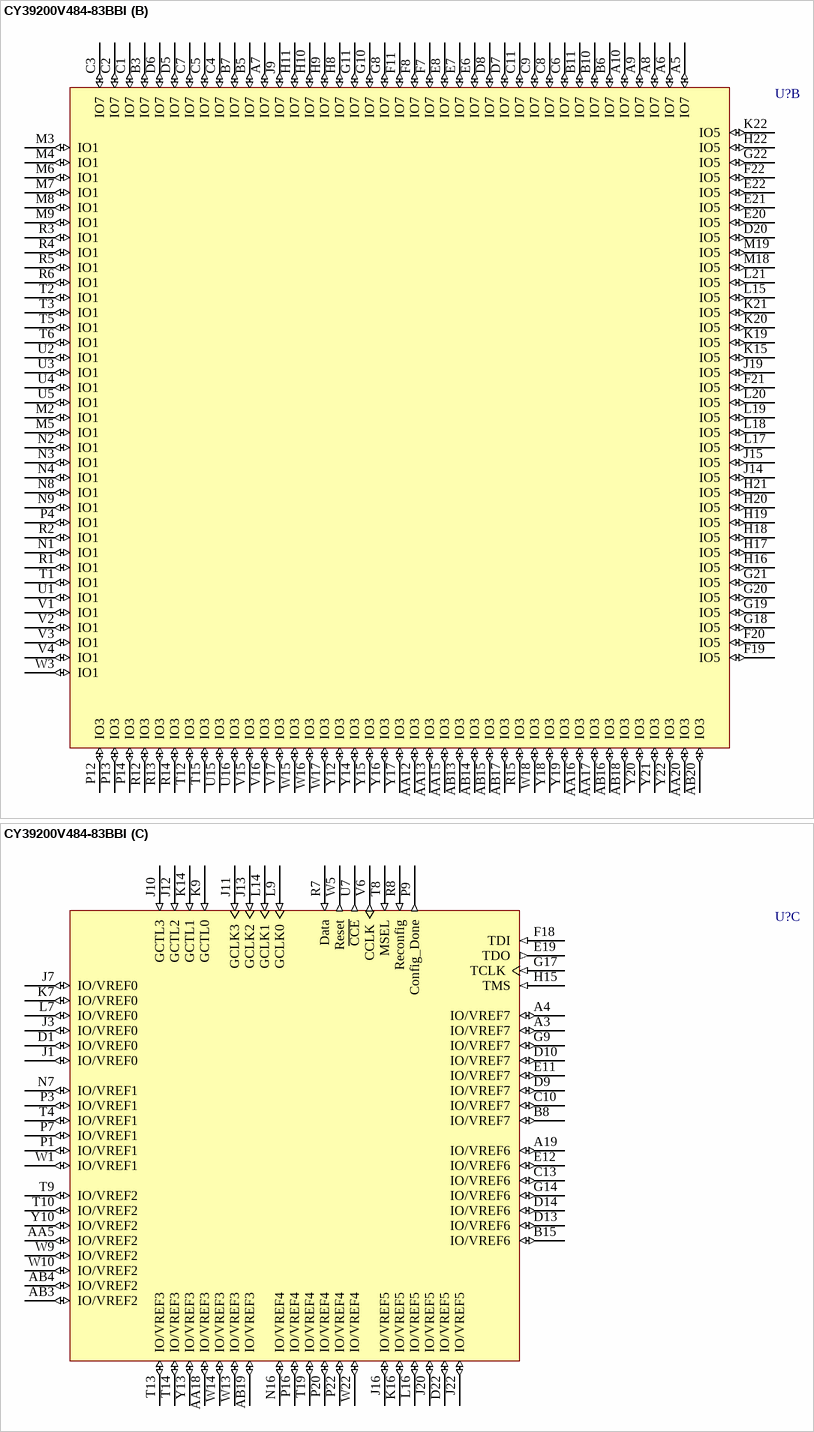
[diagram p63: symbol CY39200V484-83BBI]

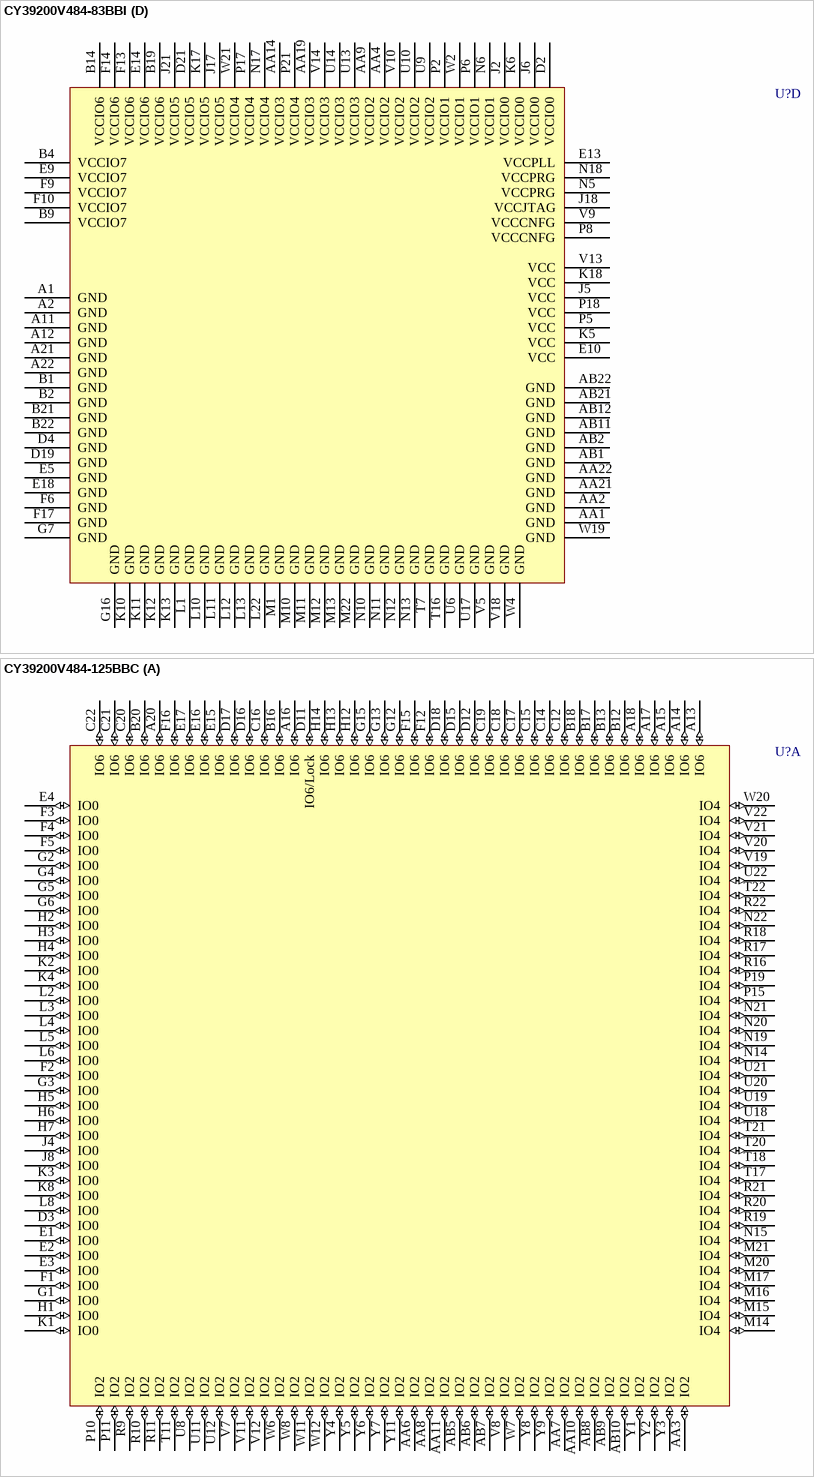
[diagram p64: symbols CY39200V484-83BBI to CY39200V484-125BBC]

## CY39200V484-83BBI
designator U?
Delta39K ISR CPLD, 3.3V/2.5V, 200K Gates, 83 MHz, 484-Ball FBGA, Industrial Grade; Published: 11-Dec-2002; LatestRevisionDate: 13-Apr-2006; LatestRevisionNote: IPC-7351 Footprint Added.; DatasheetVersion: revI, Mar-2005; PackageVersion: Mar-2005; PackageReference: BB484; Publisher: Altium Limited; PackageDescription: 484-Ball Fine Pitch Ball Grid Array 1 mm Pitch; Code_IPC: BGA100P22X22-484; ComponentLink1Description: Manufacturer Link; ComponentLink1URL: http://www.cypress.com/; ComponentLink2Description: Datasheet; ComponentLink2URL: http://www.cypress.com/portal/server.pt/gateway/PTARGS_0_601270_1522_209_0_43/http%3B/sjapp20.mis.cypress.com%3B7001/publishedcontent/publish/design_resources/datasheets/contents/cy39030v_5.pdf
footprint BB484 (BGA, 484-Leads, Body 23x23mm, Pitch 1mm)
3D model CY39200V484-BB484 (484-Ball Fine Pitch Ball Grid Array 1 mm Pitch)
part A pins: A13 IO6 (io) "IO for Bank 6", A14 IO6 (io) "IO for Bank 6", A15 IO6 (io) "IO for Bank 6", A16 IO6 (io) "IO for Bank 6", A17 IO6 (io) "IO for Bank 6", A18 IO6 (io) "IO for Bank 6", A20 IO6 (io) "IO for Bank 6", AA3 IO2 (io) "IO for Bank 2", AA6 IO2 (io) "IO for Bank 2", AA7 IO2 (io) "IO for Bank 2", AA8 IO2 (io) "IO for Bank 2", AA10 IO2 (io) "IO for Bank 2", AA11 IO2 (io) "IO for Bank 2", AB5 IO2 (io) "IO for Bank 2", AB6 IO2 (io) "IO for Bank 2", AB7 IO2 (io) "IO for Bank 2", AB8 IO2 (io) "IO for Bank 2", AB9 IO2 (io) "IO for Bank 2", AB10 IO2 (io) "IO for Bank 2", B12 IO6 (io) "IO for Bank 6", B13 IO6 (io) "IO for Bank 6", B16 IO6 (io) "IO for Bank 6", B17 IO6 (io) "IO for Bank 6", B18 IO6 (io) "IO for Bank 6", B20 IO6 (io) "IO for Bank 6", C12 IO6 (io) "IO for Bank 6", C14 IO6 (io) "IO for Bank 6", C15 IO6 (io) "IO for Bank 6", C16 IO6 (io) "IO for Bank 6", C17 IO6 (io) "IO for Bank 6", C18 IO6 (io) "IO for Bank 6", C19 IO6 (io) "IO for Bank 6", C20 IO6 (io) "IO for Bank 6", C21 IO6 (io) "IO for Bank 6", C22 IO6 (io) "IO for Bank 6", D3 IO0 (io) "IO for Bank 0", D11 IO6/Lock (io) "IO in Bank 6 or PLL lock output signal", D12 IO6 (io) "IO for Bank 6", D15 IO6 (io) "IO for Bank 6", D16 IO6 (io) "IO for Bank 6", D17 IO6 (io) "IO for Bank 6", D18 IO6 (io) "IO for Bank 6", E1 IO0 (io) "IO for Bank 0", E2 IO0 (io) "IO for Bank 0", E3 IO0 (io) "IO for Bank 0", E4 IO0 (io) "IO for Bank 0", E15 IO6 (io) "IO for Bank 6", E16 IO6 (io) "IO for Bank 6", E17 IO6 (io) "IO for Bank 6", F1 IO0 (io) "IO for Bank 0", F2 IO0 (io) "IO for Bank 0", F3 IO0 (io) "IO for Bank 0", F4 IO0 (io) "IO for Bank 0", F5 IO0 (io) "IO for Bank 0", F12 IO6 (io) "IO for Bank 6", F15 IO6 (io) "IO for Bank 6", F16 IO6 (io) "IO for Bank 6", G1 IO0 (io) "IO for Bank 0", G2 IO0 (io) "IO for Bank 0", G3 IO0 (io) "IO for Bank 0", G4 IO0 (io) "IO for Bank 0", G5 IO0 (io) "IO for Bank 0", G6 IO0 (io) "IO for Bank 0", G12 IO6 (io) "IO for Bank 6", G13 IO6 (io) "IO for Bank 6", G15 IO6 (io) "IO for Bank 6", H1 IO0 (io) "IO for Bank 0", H2 IO0 (io) "IO for Bank 0", H3 IO0 (io) "IO for Bank 0", H4 IO0 (io) "IO for Bank 0", H5 IO0 (io) "IO for Bank 0", H6 IO0 (io) "IO for Bank 0", H7 IO0 (io) "IO for Bank 0", H12 IO6 (io) "IO for Bank 6", H13 IO6 (io) "IO for Bank 6", H14 IO6 (io) "IO for Bank 6", J4 IO0 (io) "IO for Bank 0", J8 IO0 (io) "IO for Bank 0", K1 IO0 (io) "IO for Bank 0", K2 IO0 (io) "IO for Bank 0", K3 IO0 (io) "IO for Bank 0", K4 IO0 (io) "IO for Bank 0", K8 IO0 (io) "IO for Bank 0", L2 IO0 (io) "IO for Bank 0", L3 IO0 (io) "IO for Bank 0", L4 IO0 (io) "IO for Bank 0", L5 IO0 (io) "IO for Bank 0", L6 IO0 (io) "IO for Bank 0", L8 IO0 (io) "IO for Bank 0", M14 IO4 (io) "IO for Bank 4", M15 IO4 (io) "IO for Bank 4", M16 IO4 (io) "IO for Bank 4", M17 IO4 (io) "IO for Bank 4", M20 IO4 (io) "IO for Bank 4", M21 IO4 (io) "IO for Bank 4", N14 IO4 (io) "IO for Bank 4", N15 IO4 (io) "IO for Bank 4", N19 IO4 (io) "IO for Bank 4", N20 IO4 (io) "IO for Bank 4", N21 IO4 (io) "IO for Bank 4", N22 IO4 (io) "IO for Bank 4", P10 IO2 (io) "IO for Bank 2", P11 IO2 (io) "IO for Bank 2", P15 IO4 (io) "IO for Bank 4", P19 IO4 (io) "IO for Bank 4", R9 IO2 (io) "IO for Bank 2", R10 IO2 (io) "IO for Bank 2", R11 IO2 (io) "IO for Bank 2", R16 IO4 (io) "IO for Bank 4", R17 IO4 (io) "IO for Bank 4", R18 IO4 (io) "IO for Bank 4", R19 IO4 (io) "IO for Bank 4", R20 IO4 (io) "IO for Bank 4", R21 IO4 (io) "IO for Bank 4", R22 IO4 (io) "IO for Bank 4", T11 IO2 (io) "IO for Bank 2", T17 IO4 (io) "IO for Bank 4", T18 IO4 (io) "IO for Bank 4", T20 IO4 (io) "IO for Bank 4", T21 IO4 (io) "IO for Bank 4", T22 IO4 (io) "IO for Bank 4", U8 IO2 (io) "IO for Bank 2", U11 IO2 (io) "IO for Bank 2", U12 IO2 (io) "IO for Bank 2", U18 IO4 (io) "IO for Bank 4", U19 IO4 (io) "IO for Bank 4", U20 IO4 (io) "IO for Bank 4", U21 IO4 (io) "IO for Bank 4", U22 IO4 (io) "IO for Bank 4", V7 IO2 (io) "IO for Bank 2", V8 IO2 (io) "IO for Bank 2", V11 IO2 (io) "IO for Bank 2", V12 IO2 (io) "IO for Bank 2", V19 IO4 (io) "IO for Bank 4", V20 IO4 (io) "IO for Bank 4", V21 IO4 (io) "IO for Bank 4", V22 IO4 (io) "IO for Bank 4", W6 IO2 (io) "IO for Bank 2", W7 IO2 (io) "IO for Bank 2", W8 IO2 (io) "IO for Bank 2", W11 IO2 (io) "IO for Bank 2", W12 IO2 (io) "IO for Bank 2", W20 IO4 (io) "IO for Bank 4", Y1 IO2 (io) "IO for Bank 2", Y2 IO2 (io) "IO for Bank 2", Y3 IO2 (io) "IO for Bank 2", Y4 IO2 (io) "IO for Bank 2", Y5 IO2 (io) "IO for Bank 2", Y6 IO2 (io) "IO for Bank 2", Y7 IO2 (io) "IO for Bank 2", Y8 IO2 (io) "IO for Bank 2", Y9 IO2 (io) "IO for Bank 2", Y11 IO2 (io) "IO for Bank 2"
part B pins: A5 IO7 (io) "IO for Bank 7", A6 IO7 (io) "IO for Bank 7", A7 IO7 (io) "IO for Bank 7", A8 IO7 (io) "IO for Bank 7", A9 IO7 (io) "IO for Bank 7", A10 IO7 (io) "IO for Bank 7", AA12 IO3 (io) "IO for Bank 3", AA13 IO3 (io) "IO for Bank 3", AA15 IO3 (io) "IO for Bank 3", AA16 IO3 (io) "IO for Bank 3", AA17 IO3 (io) "IO for Bank 3", AA20 IO3 (io) "IO for Bank 3", AB13 IO3 (io) "IO for Bank 3", AB14 IO3 (io) "IO for Bank 3", AB15 IO3 (io) "IO for Bank 3", AB16 IO3 (io) "IO for Bank 3", AB17 IO3 (io) "IO for Bank 3", AB18 IO3 (io) "IO for Bank 3", AB20 IO3 (io) "IO for Bank 3", B3 IO7 (io) "IO for Bank 7", B5 IO7 (io) "IO for Bank 7", B6 IO7 (io) "IO for Bank 7", B7 IO7 (io) "IO for Bank 7", B10 IO7 (io) "IO for Bank 7", B11 IO7 (io) "IO for Bank 7", C1 IO7 (io) "IO for Bank 7", C2 IO7 (io) "IO for Bank 7", C3 IO7 (io) "IO for Bank 7", C4 IO7 (io) "IO for Bank 7", C5 IO7 (io) "IO for Bank 7", C6 IO7 (io) "IO for Bank 7", C7 IO7 (io) "IO for Bank 7", C8 IO7 (io) "IO for Bank 7", C9 IO7 (io) "IO for Bank 7", C11 IO7 (io) "IO for Bank 7", D5 IO7 (io) "IO for Bank 7", D6 IO7 (io) "IO for Bank 7", D7 IO7 (io) "IO for Bank 7", D8 IO7 (io) "IO for Bank 7", D20 IO5 (io) "IO for Bank 5", E6 IO7 (io) "IO for Bank 7", E7 IO7 (io) "IO for Bank 7", E8 IO7 (io) "IO for Bank 7", E20 IO5 (io) "IO for Bank 5", E21 IO5 (io) "IO for Bank 5", E22 IO5 (io) "IO for Bank 5", F7 IO7 (io) "IO for Bank 7", F8 IO7 (io) "IO for Bank 7", F11 IO7 (io) "IO for Bank 7", F19 IO5 (io) "IO for Bank 5", F20 IO5 (io) "IO for Bank 5", F21 IO5 (io) "IO for Bank 5", F22 IO5 (io) "IO for Bank 5", G8 IO7 (io) "IO for Bank 7", G10 IO7 (io) "IO for Bank 7", G11 IO7 (io) "IO for Bank 7", G18 IO5 (io) "IO for Bank 5", G19 IO5 (io) "IO for Bank 5", G20 IO5 (io) "IO for Bank 5", G21 IO5 (io) "IO for Bank 5", G22 IO5 (io) "IO for Bank 5", H8 IO7 (io) "IO for Bank 7", H9 IO7 (io) "IO for Bank 7", H10 IO7 (io) "IO for Bank 7", H11 IO7 (io) "IO for Bank 7", H16 IO5 (io) "IO for Bank 5", H17 IO5 (io) "IO for Bank 5", H18 IO5 (io) "IO for Bank 5", H19 IO5 (io) "IO for Bank 5", H20 IO5 (io) "IO for Bank 5", H21 IO5 (io) "IO for Bank 5", H22 IO5 (io) "IO for Bank 5", J9 IO7 (io) "IO for Bank 7", J14 IO5 (io) "IO for Bank 5", J15 IO5 (io) "IO for Bank 5", J19 IO5 (io) "IO for Bank 5", K15 IO5 (io) "IO for Bank 5", K19 IO5 (io) "IO for Bank 5", K20 IO5 (io) "IO for Bank 5", K21 IO5 (io) "IO for Bank 5", K22 IO5 (io) "IO for Bank 5", L15 IO5 (io) "IO for Bank 5", L17 IO5 (io) "IO for Bank 5", L18 IO5 (io) "IO for Bank 5", L19 IO5 (io) "IO for Bank 5", L20 IO5 (io) "IO for Bank 5", L21 IO5 (io) "IO for Bank 5", M2 IO1 (io) "IO for Bank 1", M3 IO1 (io) "IO for Bank 1", M4 IO1 (io) "IO for Bank 1", M5 IO1 (io) "IO for Bank 1", M6 IO1 (io) "IO for Bank 1", M7 IO1 (io) "IO for Bank 1", M8 IO1 (io) "IO for Bank 1", M9 IO1 (io) "IO for Bank 1", M18 IO5 (io) "IO for Bank 5", M19 IO5 (io) "IO for Bank 5", N1 IO1 (io) "IO for Bank 1", N2 IO1 (io) "IO for Bank 1", N3 IO1 (io) "IO for Bank 1", N4 IO1 (io) "IO for Bank 1", N8 IO1 (io) "IO for Bank 1", N9 IO1 (io) "IO for Bank 1", P4 IO1 (io) "IO for Bank 1", P12 IO3 (io) "IO for Bank 3", P13 IO3 (io) "IO for Bank 3", P14 IO3 (io) "IO for Bank 3", R1 IO1 (io) "IO for Bank 1", R2 IO1 (io) "IO for Bank 1", R3 IO1 (io) "IO for Bank 1", R4 IO1 (io) "IO for Bank 1", R5 IO1 (io) "IO for Bank 1", R6 IO1 (io) "IO for Bank 1", R12 IO3 (io) "IO for Bank 3", R13 IO3 (io) "IO for Bank 3", R14 IO3 (io) "IO for Bank 3", R15 IO3 (io) "IO for Bank 3", T1 IO1 (io) "IO for Bank 1", T2 IO1 (io) "IO for Bank 1", T3 IO1 (io) "IO for Bank 1", T5 IO1 (io) "IO for Bank 1", T6 IO1 (io) "IO for Bank 1", T12 IO3 (io) "IO for Bank 3", T15 IO3 (io) "IO for Bank 3", U1 IO1 (io) "IO for Bank 1", U2 IO1 (io) "IO for Bank 1", U3 IO1 (io) "IO for Bank 1", U4 IO1 (io) "IO for Bank 1", U5 IO1 (io) "IO for Bank 1", U15 IO3 (io) "IO for Bank 3", U16 IO3 (io) "IO for Bank 3", V1 IO1 (io) "IO for Bank 1", V2 IO1 (io) "IO for Bank 1", V3 IO1 (io) "IO for Bank 1", V4 IO1 (io) "IO for Bank 1", V15 IO3 (io) "IO for Bank 3", V16 IO3 (io) "IO for Bank 3", V17 IO3 (io) "IO for Bank 3", W3 IO1 (io) "IO for Bank 1", W15 IO3 (io) "IO for Bank 3", W16 IO3 (io) "IO for Bank 3", W17 IO3 (io) "IO for Bank 3", W18 IO3 (io) "IO for Bank 3", Y12 IO3 (io) "IO for Bank 3", Y14 IO3 (io) "IO for Bank 3", Y15 IO3 (io) "IO for Bank 3", Y16 IO3 (io) "IO for Bank 3", Y17 IO3 (io) "IO for Bank 3", Y18 IO3 (io) "IO for Bank 3", Y19 IO3 (io) "IO for Bank 3", Y20 IO3 (io) "IO for Bank 3", Y21 IO3 (io) "IO for Bank 3", Y22 IO3 (io) "IO for Bank 3"
part C pins: A3 IO/VREF7 (io) "IO or Reference Voltage for Bank 7", A4 IO/VREF7 (io) "IO or Reference Voltage for Bank 7", A19 IO/VREF6 (io) "IO or Reference Voltage for Bank 6", AA5 IO/VREF2 (io) "IO or Reference Voltage for Bank 2", AA18 IO/VREF3 (io) "IO or Reference Voltage for Bank 3", AB3 IO/VREF2 (io) "IO or Reference Voltage for Bank 2", AB4 IO/VREF2 (io) "IO or Reference Voltage for Bank 2", AB19 IO/VREF3 (io) "IO or Reference Voltage for Bank 3", B8 IO/VREF7 (io) "IO or Reference Voltage for Bank 7", B15 IO/VREF6 (io) "IO or Reference Voltage for Bank 6", C10 IO/VREF7 (io) "IO or Reference Voltage for Bank 7", C13 IO/VREF6 (io) "IO or Reference Voltage for Bank 6", D1 IO/VREF0 (io) "IO or Reference Voltage for Bank 0", D9 IO/VREF7 (io) "IO or Reference Voltage for Bank 7", D10 IO/VREF7 (io) "IO or Reference Voltage for Bank 7", D13 IO/VREF6 (io) "IO or Reference Voltage for Bank 6", D14 IO/VREF6 (io) "IO or Reference Voltage for Bank 6", D22 IO/VREF5 (io) "IO or Reference Voltage for Bank 5", E11 IO/VREF7 (io) "IO or Reference Voltage for Bank 7", E12 IO/VREF6 (io) "IO or Reference Voltage for Bank 6", E19 TDO (out) "JTAG Test Data Out", F18 TDI (in) "JTAG Test Data In", G9 IO/VREF7 (io) "IO or Reference Voltage for Bank 7", G14 IO/VREF6 (io) "IO or Reference Voltage for Bank 6", G17 TCLK (in) "JTAG Test Clock", H15 TMS (in) "JTAG Test Mode Select", J1 IO/VREF0 (io) "IO or Reference Voltage for Bank 0", J3 IO/VREF0 (io) "IO or Reference Voltage for Bank 0", J7 IO/VREF0 (io) "IO or Reference Voltage for Bank 0", J10 GCTL3 (in) "Global Control signal 3", J11 GCLK3 (in) "Global Clock signal 3", J12 GCTL2 (in) "Global Control signal 2", J13 GCLK2 (in) "Global Clock signal 2", J16 IO/VREF5 (io) "IO or Reference Voltage for Bank 5", J20 IO/VREF5 (io) "IO or Reference Voltage for Bank 5", J22 IO/VREF5 (io) "IO or Reference Voltage for Bank 5", K7 IO/VREF0 (io) "IO or Reference Voltage for Bank 0", K9 GCTL0 (in) "Global Control signal 0", K14 GCTL1 (in) "Global Control signal 1", K16 IO/VREF5 (io) "IO or Reference Voltage for Bank 5", L7 IO/VREF0 (io) "IO or Reference Voltage for Bank 0", L9 GCLK0 (in) "Global Clock signal 0", L14 GCLK1 (in) "Global Clock signal 1", L16 IO/VREF5 (io) "IO or Reference Voltage for Bank 5", N7 IO/VREF1 (io) "IO or Reference Voltage for Bank 1", N16 IO/VREF4 (io) "IO or Reference Voltage for Bank 4", P1 IO/VREF1 (io) "IO or Reference Voltage for Bank 1", P3 IO/VREF1 (io) "IO or Reference Voltage for Bank 1", P7 IO/VREF1 (io) "IO or Reference Voltage for Bank 1", P9 Config_Done (out) "Flag indicating that configuration is complete", P16 IO/VREF4 (io) "IO or Reference Voltage for Bank 4", P20 IO/VREF4 (io) "IO or Reference Voltage for Bank 4", P22 IO/VREF4 (io) "IO or Reference Voltage for Bank 4", R7 Data (in) "Pin to receive configuration data from the external boot PROM", R8 Reconfig (in) "Pin to start configuration of Delta39K", T4 IO/VREF1 (io) "IO or Reference Voltage for Bank 1", T8 MSEL (in) "Mode Select Pin", T9 IO/VREF2 (io) "IO or Reference Voltage for Bank 2", T10 IO/VREF2 (io) "IO or Reference Voltage for Bank 2", T13 IO/VREF3 (io) "IO or Reference Voltage for Bank 3", T14 IO/VREF3 (io) "IO or Reference Voltage for Bank 3", T19 IO/VREF4 (io) "IO or Reference Voltage for Bank 4", U7 ~{CCE} (out) "Chip select for the external boot PROM (active low)", V6 CCLK (out) "Configuration Clock for serial interface with the external boot PROM", W1 IO/VREF1 (io) "IO or Reference Voltage for Bank 1", W5 Reset (out) "Reset signal to interface with the external boot PROM", W9 IO/VREF2 (io) "IO or Reference Voltage for Bank 2", W10 IO/VREF2 (io) "IO or Reference Voltage for Bank 2", W13 IO/VREF3 (io) "IO or Reference Voltage for Bank 3", W14 IO/VREF3 (io) "IO or Reference Voltage for Bank 3", W22 IO/VREF4 (io) "IO or Reference Voltage for Bank 4", Y10 IO/VREF2 (io) "IO or Reference Voltage for Bank 2", Y13 IO/VREF3 (io) "IO or Reference Voltage for Bank 3"
part D pins: A1 GND (power) "Ground", A2 GND (power) "Ground", A11 GND (power) "Ground", A12 GND (power) "Ground", A21 GND (power) "Ground", A22 GND (power) "Ground", AA1 GND (power) "Ground", AA2 GND (power) "Ground", AA4 VCCIO2 (power) "VCC for I/O bank 2", AA9 VCCIO2 (power) "VCC for I/O bank 2", AA14 VCCIO3 (power) "VCC for I/O bank 3", AA19 VCCIO3 (power) "VCC for I/O bank 3", AA21 GND (power) "Ground", AA22 GND (power) "Ground", AB1 GND (power) "Ground", AB2 GND (power) "Ground", AB11 GND (power) "Ground", AB12 GND (power) "Ground", AB21 GND (power) "Ground", AB22 GND (power) "Ground", B1 GND (power) "Ground", B2 GND (power) "Ground", B4 VCCIO7 (power) "VCC for I/O bank 7", B9 VCCIO7 (power) "VCC for I/O bank 7", B14 VCCIO6 (power) "VCC for I/O bank 6", B19 VCCIO6 (power) "VCC for I/O bank 6", B21 GND (power) "Ground", B22 GND (power) "Ground", D2 VCCIO0 (power) "VCC for I/O bank 0", D4 GND (power) "Ground", D19 GND (power) "Ground", D21 VCCIO5 (power) "VCC for I/O bank 5", E5 GND (power) "Ground", E9 VCCIO7 (power) "VCC for I/O bank 7", E10 VCC (power) "Operating Voltage", E13 VCCPLL (power) "VCC for PLL", E14 VCCIO6 (power) "VCC for I/O bank 6", E18 GND (power) "Ground", F6 GND (power) "Ground", F9 VCCIO7 (power) "VCC for I/O bank 7", F10 VCCIO7 (power) "VCC for I/O bank 7", F13 VCCIO6 (power) "VCC for I/O bank 6", F14 VCCIO6 (power) "VCC for I/O bank 6", F17 GND (power) "Ground", G7 GND (power) "Ground", G16 GND (power) "Ground", J2 VCCIO0 (power) "VCC for I/O bank 0", J5 VCC (power) "Operating Voltage", J6 VCCIO0 (power) "VCC for I/O bank 0", J17 VCCIO5 (power) "VCC for I/O bank 5", J18 VCCJTAG (power) "VCC for JTAG pins", J21 VCCIO5 (power) "VCC for I/O bank 5", K5 VCC (power) "Operating Voltage", K6 VCCIO0 (power) "VCC for I/O bank 0", K10 GND (power) "Ground", K11 GND (power) "Ground", K12 GND (power) "Ground", K13 GND (power) "Ground", K17 VCCIO5 (power) "VCC for I/O bank 5", K18 VCC (power) "Operating Voltage", L1 GND (power) "Ground", L10 GND (power) "Ground", L11 GND (power) "Ground", L12 GND (power) "Ground", L13 GND (power) "Ground", L22 GND (power) "Ground", M1 GND (power) "Ground", M10 GND (power) "Ground", M11 GND (power) "Ground", M12 GND (power) "Ground", M13 GND (power) "Ground", M22 GND (power) "Ground", N5 VCCPRG (power) "VCC for programming Self-Boot solution embedded boot PROM", N6 VCCIO1 (power) "VCC for I/O bank 1", N10 GND (power) "Ground", N11 GND (power) "Ground", N12 GND (power) "Ground", N13 GND (power) "Ground", N17 VCCIO4 (power) "VCC for I/O bank 4", N18 VCCPRG (power) "VCC for programming Self-Boot solution embedded boot PROM", P2 VCCIO1 (power) "VCC for I/O bank 1", P5 VCC (power) "Operating Voltage", P6 VCCIO1 (power) "VCC for I/O bank 1", P8 VCCCNFG (power) "VCC for Configuration port", P17 VCCIO4 (power) "VCC for I/O bank 4", P18 VCC (power) "Operating Voltage", P21 VCCIO4 (power) "VCC for I/O bank 4", T7 GND (power) "Ground", T16 GND (power) "Ground", U6 GND (power) "Ground", U9 VCCIO2 (power) "VCC for I/O bank 2", U10 VCCIO2 (power) "VCC for I/O bank 2", U13 VCCIO3 (power) "VCC for I/O bank 3", U14 VCCIO3 (power) "VCC for I/O bank 3", U17 GND (power) "Ground", V5 GND (power) "Ground", V9 VCCCNFG (power) "VCC for Configuration port", V10 VCCIO2 (power) "VCC for I/O bank 2", V13 VCC (power) "Operating Voltage", V14 VCCIO3 (power) "VCC for I/O bank 3", V18 GND (power) "Ground", W2 VCCIO1 (power) "VCC for I/O bank 1", W4 GND (power) "Ground", W19 GND (power) "Ground", W21 VCCIO4 (power) "VCC for I/O bank 4"

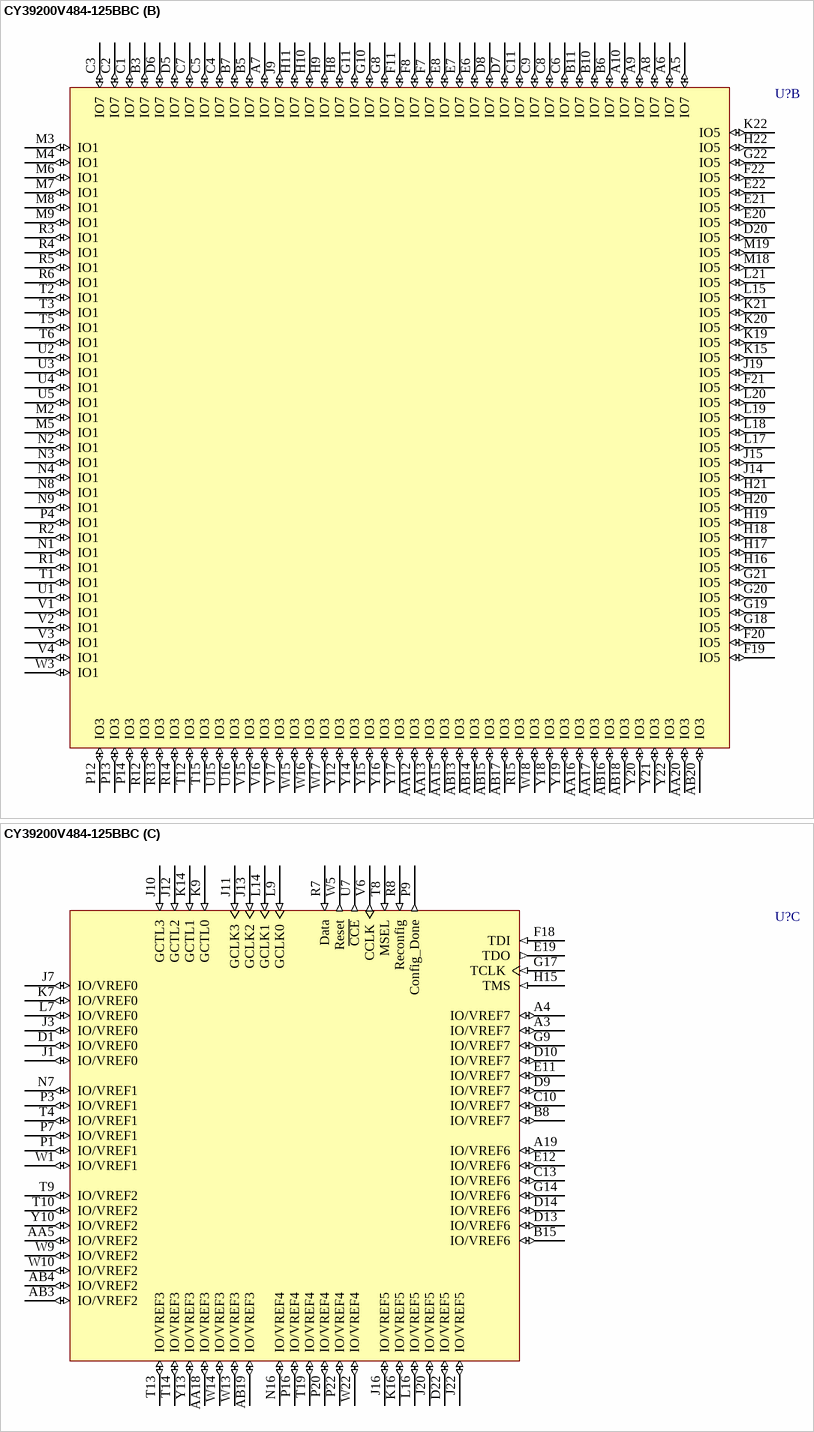
[diagram p65: symbol CY39200V484-125BBC]

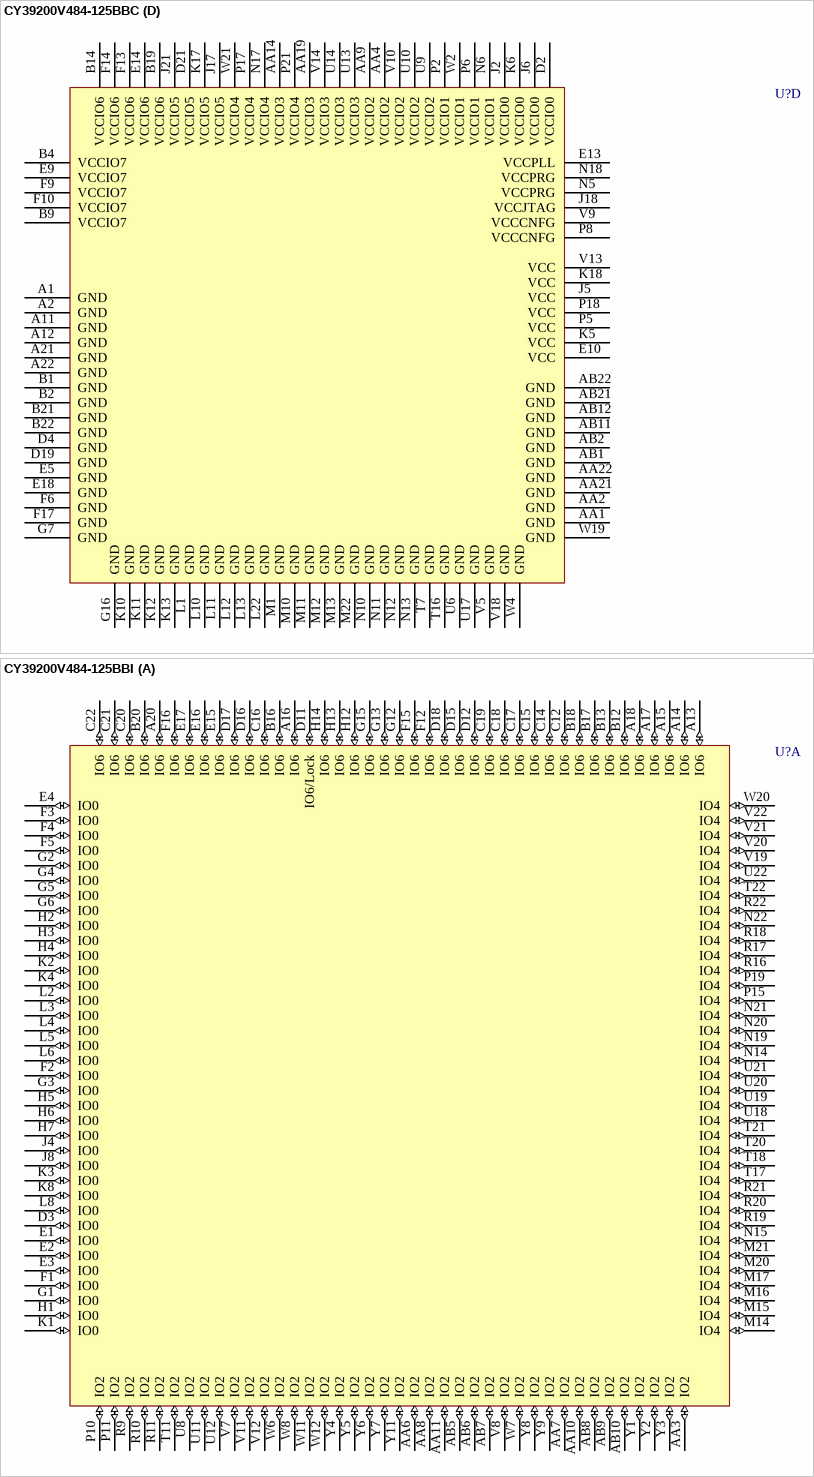
[diagram p66: symbols CY39200V484-125BBC to CY39200V484-125BBI]